# Altium integrated library Vishay Roederstein Electrolytic Snap-In Pins Capacitor.IntLib: 936 symbols (part 14 of 16)
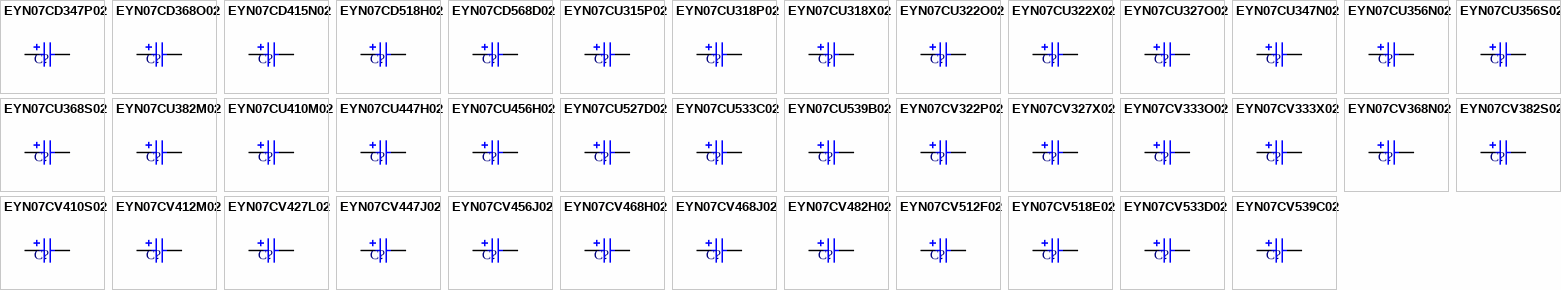
[diagram p36: symbols EYN07CD347P02 to EYN07CV539C02]

## EYN07CU539B02
designator C?
Aluminum Electrolytic Capacitor, Power Capacitor Style EYN, Snap-in 6mm Solder Pins: 39000uF, 6.3V; PCB_Layout: Complies with Manufacturer's Recommendation.; DrillSize: Nominal, Complies with Manufacturer's Recommendation.; Published: 19-Mar-2004; DatasheetDocument: 4-Feb-2002; PackageReference: CAPPRS10-35X25; Publisher: Altium Limited; ComponentLink1Description: Manufacturer Link; ComponentLink1URL: http://www.vishay.com/; ComponentLink2Description: Datasheet; ComponentLink2URL: http://www.vishay.com/docs/25137/eyn.pdf; Value: 39000uF
footprint CAPPRS10-35X25 (Capacitor, Electrolytic, Radial, Snap-In Pins; Body 35 x 25 mm (Dia.xH typ); Pin Spacing 10 mm (typ))
simulation model CAP (Capacitor)
signal-integrity model EYN07CU539B02
pins: 1, 2
1 alternate drawing of the same symbol

## EYN07CV322P02
designator C?
Aluminum Electrolytic Capacitor, Power Capacitor Style EYN, Snap-in 6mm Solder Pins: 220uF, 450V; PCB_Layout: Complies with Manufacturer's Recommendation.; DrillSize: Nominal, Complies with Manufacturer's Recommendation.; Published: 19-Mar-2004; DatasheetDocument: 4-Feb-2002; PackageReference: CAPPRS10-35X30; Publisher: Altium Limited; ComponentLink1Description: Manufacturer Link; ComponentLink1URL: http://www.vishay.com/; ComponentLink2Description: Datasheet; ComponentLink2URL: http://www.vishay.com/docs/25137/eyn.pdf; Value: 220uF
footprint CAPPRS10-35X30 (Capacitor, Electrolytic, Radial, Snap-In Pins; Body 35 x 30 mm (Dia.xH typ); Pin Spacing 10 mm (typ))
simulation model CAP (Capacitor)
signal-integrity model EYN07CV322P02
pins: 1, 2
1 alternate drawing of the same symbol

## EYN07CV327X02
designator C?
Aluminum Electrolytic Capacitor, Power Capacitor Style EYN, Snap-in 6mm Solder Pins: 270uF, 400V; PCB_Layout: Complies with Manufacturer's Recommendation.; DrillSize: Nominal, Complies with Manufacturer's Recommendation.; Published: 19-Mar-2004; DatasheetDocument: 4-Feb-2002; PackageReference: CAPPRS10-35X30; Publisher: Altium Limited; ComponentLink1Description: Manufacturer Link; ComponentLink1URL: http://www.vishay.com/; ComponentLink2Description: Datasheet; ComponentLink2URL: http://www.vishay.com/docs/25137/eyn.pdf; Value: 270uF
footprint CAPPRS10-35X30 (Capacitor, Electrolytic, Radial, Snap-In Pins; Body 35 x 30 mm (Dia.xH typ); Pin Spacing 10 mm (typ))
simulation model CAP (Capacitor)
signal-integrity model EYN07CV327X02
pins: 1, 2
1 alternate drawing of the same symbol

## EYN07CV333O02
designator C?
Aluminum Electrolytic Capacitor, Power Capacitor Style EYN, Snap-in 6mm Solder Pins: 330uF, 350V; PCB_Layout: Complies with Manufacturer's Recommendation.; DrillSize: Nominal, Complies with Manufacturer's Recommendation.; Published: 19-Mar-2004; DatasheetDocument: 4-Feb-2002; PackageReference: CAPPRS10-35X30; Publisher: Altium Limited; ComponentLink1Description: Manufacturer Link; ComponentLink1URL: http://www.vishay.com/; ComponentLink2Description: Datasheet; ComponentLink2URL: http://www.vishay.com/docs/25137/eyn.pdf; Value: 330uF
footprint CAPPRS10-35X30 (Capacitor, Electrolytic, Radial, Snap-In Pins; Body 35 x 30 mm (Dia.xH typ); Pin Spacing 10 mm (typ))
simulation model CAP (Capacitor)
signal-integrity model EYN07CV333O02
pins: 1, 2
1 alternate drawing of the same symbol

## EYN07CV333X02
designator C?
Aluminum Electrolytic Capacitor, Power Capacitor Style EYN, Snap-in 6mm Solder Pins: 330uF, 400V; PCB_Layout: Complies with Manufacturer's Recommendation.; DrillSize: Nominal, Complies with Manufacturer's Recommendation.; Published: 19-Mar-2004; DatasheetDocument: 4-Feb-2002; PackageReference: CAPPRS10-35X30; Publisher: Altium Limited; ComponentLink1Description: Manufacturer Link; ComponentLink1URL: http://www.vishay.com/; ComponentLink2Description: Datasheet; ComponentLink2URL: http://www.vishay.com/docs/25137/eyn.pdf; Value: 330uF
footprint CAPPRS10-35X30 (Capacitor, Electrolytic, Radial, Snap-In Pins; Body 35 x 30 mm (Dia.xH typ); Pin Spacing 10 mm (typ))
simulation model CAP (Capacitor)
signal-integrity model EYN07CV333X02
pins: 1, 2
1 alternate drawing of the same symbol

## EYN07CV368N02
designator C?
Aluminum Electrolytic Capacitor, Power Capacitor Style EYN, Snap-in 6mm Solder Pins: 680uF, 250V; PCB_Layout: Complies with Manufacturer's Recommendation.; DrillSize: Nominal, Complies with Manufacturer's Recommendation.; Published: 19-Mar-2004; DatasheetDocument: 4-Feb-2002; PackageReference: CAPPRS10-35X30; Publisher: Altium Limited; ComponentLink1Description: Manufacturer Link; ComponentLink1URL: http://www.vishay.com/; ComponentLink2Description: Datasheet; ComponentLink2URL: http://www.vishay.com/docs/25137/eyn.pdf; Value: 680uF
footprint CAPPRS10-35X30 (Capacitor, Electrolytic, Radial, Snap-In Pins; Body 35 x 30 mm (Dia.xH typ); Pin Spacing 10 mm (typ))
simulation model CAP (Capacitor)
signal-integrity model EYN07CV368N02
pins: 1, 2
1 alternate drawing of the same symbol

## EYN07CV382S02
designator C?
Aluminum Electrolytic Capacitor, Power Capacitor Style EYN, Snap-in 6mm Solder Pins: 820uF, 200V; PCB_Layout: Complies with Manufacturer's Recommendation.; DrillSize: Nominal, Complies with Manufacturer's Recommendation.; Published: 19-Mar-2004; DatasheetDocument: 4-Feb-2002; PackageReference: CAPPRS10-35X30; Publisher: Altium Limited; ComponentLink1Description: Manufacturer Link; ComponentLink1URL: http://www.vishay.com/; ComponentLink2Description: Datasheet; ComponentLink2URL: http://www.vishay.com/docs/25137/eyn.pdf; Value: 820uF
footprint CAPPRS10-35X30 (Capacitor, Electrolytic, Radial, Snap-In Pins; Body 35 x 30 mm (Dia.xH typ); Pin Spacing 10 mm (typ))
simulation model CAP (Capacitor)
signal-integrity model EYN07CV382S02
pins: 1, 2
1 alternate drawing of the same symbol

## EYN07CV410S02
designator C?
Aluminum Electrolytic Capacitor, Power Capacitor Style EYN, Snap-in 6mm Solder Pins: 1000uF, 200V; PCB_Layout: Complies with Manufacturer's Recommendation.; DrillSize: Nominal, Complies with Manufacturer's Recommendation.; Published: 19-Mar-2004; DatasheetDocument: 4-Feb-2002; PackageReference: CAPPRS10-35X30; Publisher: Altium Limited; ComponentLink1Description: Manufacturer Link; ComponentLink1URL: http://www.vishay.com/; ComponentLink2Description: Datasheet; ComponentLink2URL: http://www.vishay.com/docs/25137/eyn.pdf; Value: 1000uF
footprint CAPPRS10-35X30 (Capacitor, Electrolytic, Radial, Snap-In Pins; Body 35 x 30 mm (Dia.xH typ); Pin Spacing 10 mm (typ))
simulation model CAP (Capacitor)
signal-integrity model EYN07CV410S02
pins: 1, 2
1 alternate drawing of the same symbol

## EYN07CV412M02
designator C?
Aluminum Electrolytic Capacitor, Power Capacitor Style EYN, Snap-in 6mm Solder Pins: 1200uF, 160V; PCB_Layout: Complies with Manufacturer's Recommendation.; DrillSize: Nominal, Complies with Manufacturer's Recommendation.; Published: 19-Mar-2004; DatasheetDocument: 4-Feb-2002; PackageReference: CAPPRS10-35X30; Publisher: Altium Limited; ComponentLink1Description: Manufacturer Link; ComponentLink1URL: http://www.vishay.com/; ComponentLink2Description: Datasheet; ComponentLink2URL: http://www.vishay.com/docs/25137/eyn.pdf; Value: 1200uF
footprint CAPPRS10-35X30 (Capacitor, Electrolytic, Radial, Snap-In Pins; Body 35 x 30 mm (Dia.xH typ); Pin Spacing 10 mm (typ))
simulation model CAP (Capacitor)
signal-integrity model EYN07CV412M02
pins: 1, 2
1 alternate drawing of the same symbol

## EYN07CV427L02
designator C?
Aluminum Electrolytic Capacitor, Power Capacitor Style EYN, Snap-in 6mm Solder Pins: 2700uF, 100V; PCB_Layout: Complies with Manufacturer's Recommendation.; DrillSize: Nominal, Complies with Manufacturer's Recommendation.; Published: 19-Mar-2004; DatasheetDocument: 4-Feb-2002; PackageReference: CAPPRS10-35X30; Publisher: Altium Limited; ComponentLink1Description: Manufacturer Link; ComponentLink1URL: http://www.vishay.com/; ComponentLink2Description: Datasheet; ComponentLink2URL: http://www.vishay.com/docs/25137/eyn.pdf; Value: 2700uF
footprint CAPPRS10-35X30 (Capacitor, Electrolytic, Radial, Snap-In Pins; Body 35 x 30 mm (Dia.xH typ); Pin Spacing 10 mm (typ))
simulation model CAP (Capacitor)
signal-integrity model EYN07CV427L02
pins: 1, 2
1 alternate drawing of the same symbol

## EYN07CV447J02
designator C?
Aluminum Electrolytic Capacitor, Power Capacitor Style EYN, Snap-in 6mm Solder Pins: 4700uF, 63V; PCB_Layout: Complies with Manufacturer's Recommendation.; DrillSize: Nominal, Complies with Manufacturer's Recommendation.; Published: 19-Mar-2004; DatasheetDocument: 4-Feb-2002; PackageReference: CAPPRS10-35X30; Publisher: Altium Limited; ComponentLink1Description: Manufacturer Link; ComponentLink1URL: http://www.vishay.com/; ComponentLink2Description: Datasheet; ComponentLink2URL: http://www.vishay.com/docs/25137/eyn.pdf; Value: 4700uF
footprint CAPPRS10-35X30 (Capacitor, Electrolytic, Radial, Snap-In Pins; Body 35 x 30 mm (Dia.xH typ); Pin Spacing 10 mm (typ))
simulation model CAP (Capacitor)
signal-integrity model EYN07CV447J02
pins: 1, 2
1 alternate drawing of the same symbol

## EYN07CV456J02
designator C?
Aluminum Electrolytic Capacitor, Power Capacitor Style EYN, Snap-in 6mm Solder Pins: 5600uF, 63V; PCB_Layout: Complies with Manufacturer's Recommendation.; DrillSize: Nominal, Complies with Manufacturer's Recommendation.; Published: 19-Mar-2004; DatasheetDocument: 4-Feb-2002; PackageReference: CAPPRS10-35X30; Publisher: Altium Limited; ComponentLink1Description: Manufacturer Link; ComponentLink1URL: http://www.vishay.com/; ComponentLink2Description: Datasheet; ComponentLink2URL: http://www.vishay.com/docs/25137/eyn.pdf; Value: 5600uF
footprint CAPPRS10-35X30 (Capacitor, Electrolytic, Radial, Snap-In Pins; Body 35 x 30 mm (Dia.xH typ); Pin Spacing 10 mm (typ))
simulation model CAP (Capacitor)
signal-integrity model EYN07CV456J02
pins: 1, 2
1 alternate drawing of the same symbol

## EYN07CV468H02
designator C?
Aluminum Electrolytic Capacitor, Power Capacitor Style EYN, Snap-in 6mm Solder Pins: 6800uF, 50V; PCB_Layout: Complies with Manufacturer's Recommendation.; DrillSize: Nominal, Complies with Manufacturer's Recommendation.; Published: 19-Mar-2004; DatasheetDocument: 4-Feb-2002; PackageReference: CAPPRS10-35X30; Publisher: Altium Limited; ComponentLink1Description: Manufacturer Link; ComponentLink1URL: http://www.vishay.com/; ComponentLink2Description: Datasheet; ComponentLink2URL: http://www.vishay.com/docs/25137/eyn.pdf; Value: 6800uF
footprint CAPPRS10-35X30 (Capacitor, Electrolytic, Radial, Snap-In Pins; Body 35 x 30 mm (Dia.xH typ); Pin Spacing 10 mm (typ))
simulation model CAP (Capacitor)
signal-integrity model EYN07CV468H02
pins: 1, 2
1 alternate drawing of the same symbol

## EYN07CV468J02
designator C?
Aluminum Electrolytic Capacitor, Power Capacitor Style EYN, Snap-in 6mm Solder Pins: 6800uF, 63V; PCB_Layout: Complies with Manufacturer's Recommendation.; DrillSize: Nominal, Complies with Manufacturer's Recommendation.; Published: 19-Mar-2004; DatasheetDocument: 4-Feb-2002; PackageReference: CAPPRS10-35X30; Publisher: Altium Limited; ComponentLink1Description: Manufacturer Link; ComponentLink1URL: http://www.vishay.com/; ComponentLink2Description: Datasheet; ComponentLink2URL: http://www.vishay.com/docs/25137/eyn.pdf; Value: 6800uF
footprint CAPPRS10-35X30 (Capacitor, Electrolytic, Radial, Snap-In Pins; Body 35 x 30 mm (Dia.xH typ); Pin Spacing 10 mm (typ))
simulation model CAP (Capacitor)
signal-integrity model EYN07CV468J02
pins: 1, 2
1 alternate drawing of the same symbol

## EYN07CV482H02
designator C?
Aluminum Electrolytic Capacitor, Power Capacitor Style EYN, Snap-in 6mm Solder Pins: 8200uF, 50V; PCB_Layout: Complies with Manufacturer's Recommendation.; DrillSize: Nominal, Complies with Manufacturer's Recommendation.; Published: 19-Mar-2004; DatasheetDocument: 4-Feb-2002; PackageReference: CAPPRS10-35X30; Publisher: Altium Limited; ComponentLink1Description: Manufacturer Link; ComponentLink1URL: http://www.vishay.com/; ComponentLink2Description: Datasheet; ComponentLink2URL: http://www.vishay.com/docs/25137/eyn.pdf; Value: 8200uF
footprint CAPPRS10-35X30 (Capacitor, Electrolytic, Radial, Snap-In Pins; Body 35 x 30 mm (Dia.xH typ); Pin Spacing 10 mm (typ))
simulation model CAP (Capacitor)
signal-integrity model EYN07CV482H02
pins: 1, 2
1 alternate drawing of the same symbol

## EYN07CV512F02
designator C?
Aluminum Electrolytic Capacitor, Power Capacitor Style EYN, Snap-in 6mm Solder Pins: 12000uF, 35V; PCB_Layout: Complies with Manufacturer's Recommendation.; DrillSize: Nominal, Complies with Manufacturer's Recommendation.; Published: 19-Mar-2004; DatasheetDocument: 4-Feb-2002; PackageReference: CAPPRS10-35X30; Publisher: Altium Limited; ComponentLink1Description: Manufacturer Link; ComponentLink1URL: http://www.vishay.com/; ComponentLink2Description: Datasheet; ComponentLink2URL: http://www.vishay.com/docs/25137/eyn.pdf; Value: 12000uF
footprint CAPPRS10-35X30 (Capacitor, Electrolytic, Radial, Snap-In Pins; Body 35 x 30 mm (Dia.xH typ); Pin Spacing 10 mm (typ))
simulation model CAP (Capacitor)
signal-integrity model EYN07CV512F02
pins: 1, 2
1 alternate drawing of the same symbol

## EYN07CV518E02
designator C?
Aluminum Electrolytic Capacitor, Power Capacitor Style EYN, Snap-in 6mm Solder Pins: 18000uF, 25V; PCB_Layout: Complies with Manufacturer's Recommendation.; DrillSize: Nominal, Complies with Manufacturer's Recommendation.; Published: 19-Mar-2004; DatasheetDocument: 4-Feb-2002; PackageReference: CAPPRS10-35X30; Publisher: Altium Limited; ComponentLink1Description: Manufacturer Link; ComponentLink1URL: http://www.vishay.com/; ComponentLink2Description: Datasheet; ComponentLink2URL: http://www.vishay.com/docs/25137/eyn.pdf; Value: 18000uF
footprint CAPPRS10-35X30 (Capacitor, Electrolytic, Radial, Snap-In Pins; Body 35 x 30 mm (Dia.xH typ); Pin Spacing 10 mm (typ))
simulation model CAP (Capacitor)
signal-integrity model EYN07CV518E02
pins: 1, 2
1 alternate drawing of the same symbol

## EYN07CV533D02
designator C?
Aluminum Electrolytic Capacitor, Power Capacitor Style EYN, Snap-in 6mm Solder Pins: 33000uF, 16V; PCB_Layout: Complies with Manufacturer's Recommendation.; DrillSize: Nominal, Complies with Manufacturer's Recommendation.; Published: 19-Mar-2004; DatasheetDocument: 4-Feb-2002; PackageReference: CAPPRS10-35X30; Publisher: Altium Limited; ComponentLink1Description: Manufacturer Link; ComponentLink1URL: http://www.vishay.com/; ComponentLink2Description: Datasheet; ComponentLink2URL: http://www.vishay.com/docs/25137/eyn.pdf; Value: 33000uF
footprint CAPPRS10-35X30 (Capacitor, Electrolytic, Radial, Snap-In Pins; Body 35 x 30 mm (Dia.xH typ); Pin Spacing 10 mm (typ))
simulation model CAP (Capacitor)
signal-integrity model EYN07CV533D02
pins: 1, 2
1 alternate drawing of the same symbol

## EYN07CV539C02
designator C?
Aluminum Electrolytic Capacitor, Power Capacitor Style EYN, Snap-in 6mm Solder Pins: 39000uF, 10V; PCB_Layout: Complies with Manufacturer's Recommendation.; DrillSize: Nominal, Complies with Manufacturer's Recommendation.; Published: 19-Mar-2004; DatasheetDocument: 4-Feb-2002; PackageReference: CAPPRS10-35X30; Publisher: Altium Limited; ComponentLink1Description: Manufacturer Link; ComponentLink1URL: http://www.vishay.com/; ComponentLink2Description: Datasheet; ComponentLink2URL: http://www.vishay.com/docs/25137/eyn.pdf; Value: 39000uF
footprint CAPPRS10-35X30 (Capacitor, Electrolytic, Radial, Snap-In Pins; Body 35 x 30 mm (Dia.xH typ); Pin Spacing 10 mm (typ))
simulation model CAP (Capacitor)
signal-integrity model EYN07CV539C02
pins: 1, 2
1 alternate drawing of the same symbol

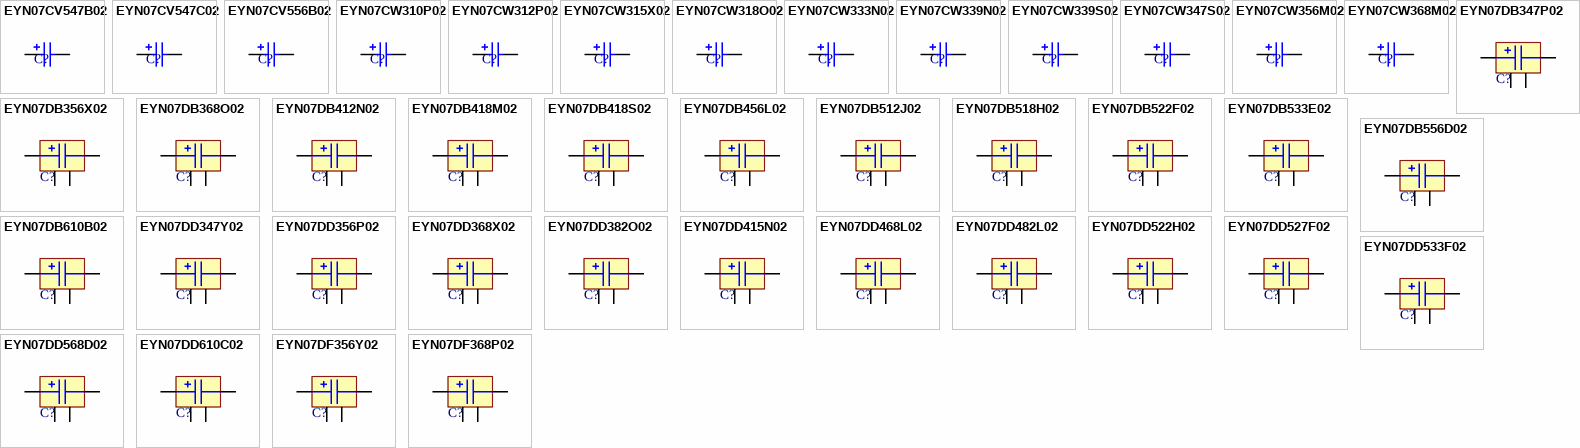
[diagram p20: symbols EYN07CV547B02 to EYN07DF368P02]

## EYN07CV547B02
designator C?
Aluminum Electrolytic Capacitor, Power Capacitor Style EYN, Snap-in 6mm Solder Pins: 47000uF, 6.3V; PCB_Layout: Complies with Manufacturer's Recommendation.; DrillSize: Nominal, Complies with Manufacturer's Recommendation.; Published: 19-Mar-2004; DatasheetDocument: 4-Feb-2002; PackageReference: CAPPRS10-35X30; Publisher: Altium Limited; ComponentLink1Description: Manufacturer Link; ComponentLink1URL: http://www.vishay.com/; ComponentLink2Description: Datasheet; ComponentLink2URL: http://www.vishay.com/docs/25137/eyn.pdf; Value: 47000uF
footprint CAPPRS10-35X30 (Capacitor, Electrolytic, Radial, Snap-In Pins; Body 35 x 30 mm (Dia.xH typ); Pin Spacing 10 mm (typ))
simulation model CAP (Capacitor)
signal-integrity model EYN07CV547B02
pins: 1, 2
1 alternate drawing of the same symbol

## EYN07CV547C02
designator C?
Aluminum Electrolytic Capacitor, Power Capacitor Style EYN, Snap-in 6mm Solder Pins: 47000uF, 10V; PCB_Layout: Complies with Manufacturer's Recommendation.; DrillSize: Nominal, Complies with Manufacturer's Recommendation.; Published: 19-Mar-2004; DatasheetDocument: 4-Feb-2002; PackageReference: CAPPRS10-35X30; Publisher: Altium Limited; ComponentLink1Description: Manufacturer Link; ComponentLink1URL: http://www.vishay.com/; ComponentLink2Description: Datasheet; ComponentLink2URL: http://www.vishay.com/docs/25137/eyn.pdf; Value: 47000uF
footprint CAPPRS10-35X30 (Capacitor, Electrolytic, Radial, Snap-In Pins; Body 35 x 30 mm (Dia.xH typ); Pin Spacing 10 mm (typ))
simulation model CAP (Capacitor)
signal-integrity model EYN07CV547C02
pins: 1, 2
1 alternate drawing of the same symbol

## EYN07CV556B02
designator C?
Aluminum Electrolytic Capacitor, Power Capacitor Style EYN, Snap-in 6mm Solder Pins: 56000uF, 6.3V; PCB_Layout: Complies with Manufacturer's Recommendation.; DrillSize: Nominal, Complies with Manufacturer's Recommendation.; Published: 19-Mar-2004; DatasheetDocument: 4-Feb-2002; PackageReference: CAPPRS10-35X30; Publisher: Altium Limited; ComponentLink1Description: Manufacturer Link; ComponentLink1URL: http://www.vishay.com/; ComponentLink2Description: Datasheet; ComponentLink2URL: http://www.vishay.com/docs/25137/eyn.pdf; Value: 56000uF
footprint CAPPRS10-35X30 (Capacitor, Electrolytic, Radial, Snap-In Pins; Body 35 x 30 mm (Dia.xH typ); Pin Spacing 10 mm (typ))
simulation model CAP (Capacitor)
signal-integrity model EYN07CV556B02
pins: 1, 2
1 alternate drawing of the same symbol

## EYN07CW310P02
designator C?
Aluminum Electrolytic Capacitor, Power Capacitor Style EYN, Snap-in 6mm Solder Pins: 100uF, 450V; PCB_Layout: Complies with Manufacturer's Recommendation.; DrillSize: Nominal, Complies with Manufacturer's Recommendation.; Published: 19-Mar-2004; DatasheetDocument: 4-Feb-2002; PackageReference: CAPPRS10-35X20; Publisher: Altium Limited; ComponentLink1Description: Manufacturer Link; ComponentLink1URL: http://www.vishay.com/; ComponentLink2Description: Datasheet; ComponentLink2URL: http://www.vishay.com/docs/25137/eyn.pdf; Value: 100uF
footprint CAPPRS10-35X20 (Capacitor, Electrolytic, Radial, Snap-In Pins; Body 35 x 20 mm (Dia.xH typ); Pin Spacing 10 mm (typ))
simulation model CAP (Capacitor)
signal-integrity model EYN07CW310P02
pins: 1, 2
1 alternate drawing of the same symbol

## EYN07CW312P02
designator C?
Aluminum Electrolytic Capacitor, Power Capacitor Style EYN, Snap-in 6mm Solder Pins: 120uF, 450V; PCB_Layout: Complies with Manufacturer's Recommendation.; DrillSize: Nominal, Complies with Manufacturer's Recommendation.; Published: 19-Mar-2004; DatasheetDocument: 4-Feb-2002; PackageReference: CAPPRS10-35X20; Publisher: Altium Limited; ComponentLink1Description: Manufacturer Link; ComponentLink1URL: http://www.vishay.com/; ComponentLink2Description: Datasheet; ComponentLink2URL: http://www.vishay.com/docs/25137/eyn.pdf; Value: 120uF
footprint CAPPRS10-35X20 (Capacitor, Electrolytic, Radial, Snap-In Pins; Body 35 x 20 mm (Dia.xH typ); Pin Spacing 10 mm (typ))
simulation model CAP (Capacitor)
signal-integrity model EYN07CW312P02
pins: 1, 2
1 alternate drawing of the same symbol

## EYN07CW315X02
designator C?
Aluminum Electrolytic Capacitor, Power Capacitor Style EYN, Snap-in 6mm Solder Pins: 150uF, 400V; PCB_Layout: Complies with Manufacturer's Recommendation.; DrillSize: Nominal, Complies with Manufacturer's Recommendation.; Published: 19-Mar-2004; DatasheetDocument: 4-Feb-2002; PackageReference: CAPPRS10-35X20; Publisher: Altium Limited; ComponentLink1Description: Manufacturer Link; ComponentLink1URL: http://www.vishay.com/; ComponentLink2Description: Datasheet; ComponentLink2URL: http://www.vishay.com/docs/25137/eyn.pdf; Value: 150uF
footprint CAPPRS10-35X20 (Capacitor, Electrolytic, Radial, Snap-In Pins; Body 35 x 20 mm (Dia.xH typ); Pin Spacing 10 mm (typ))
simulation model CAP (Capacitor)
signal-integrity model EYN07CW315X02
pins: 1, 2
1 alternate drawing of the same symbol

## EYN07CW318O02
designator C?
Aluminum Electrolytic Capacitor, Power Capacitor Style EYN, Snap-in 6mm Solder Pins: 180uF, 350V; PCB_Layout: Complies with Manufacturer's Recommendation.; DrillSize: Nominal, Complies with Manufacturer's Recommendation.; Published: 19-Mar-2004; DatasheetDocument: 4-Feb-2002; PackageReference: CAPPRS10-35X20; Publisher: Altium Limited; ComponentLink1Description: Manufacturer Link; ComponentLink1URL: http://www.vishay.com/; ComponentLink2Description: Datasheet; ComponentLink2URL: http://www.vishay.com/docs/25137/eyn.pdf; Value: 180uF
footprint CAPPRS10-35X20 (Capacitor, Electrolytic, Radial, Snap-In Pins; Body 35 x 20 mm (Dia.xH typ); Pin Spacing 10 mm (typ))
simulation model CAP (Capacitor)
signal-integrity model EYN07CW318O02
pins: 1, 2
1 alternate drawing of the same symbol

## EYN07CW333N02
designator C?
Aluminum Electrolytic Capacitor, Power Capacitor Style EYN, Snap-in 6mm Solder Pins: 330uF, 250V; PCB_Layout: Complies with Manufacturer's Recommendation.; DrillSize: Nominal, Complies with Manufacturer's Recommendation.; Published: 19-Mar-2004; DatasheetDocument: 4-Feb-2002; PackageReference: CAPPRS10-35X20; Publisher: Altium Limited; ComponentLink1Description: Manufacturer Link; ComponentLink1URL: http://www.vishay.com/; ComponentLink2Description: Datasheet; ComponentLink2URL: http://www.vishay.com/docs/25137/eyn.pdf; Value: 330uF
footprint CAPPRS10-35X20 (Capacitor, Electrolytic, Radial, Snap-In Pins; Body 35 x 20 mm (Dia.xH typ); Pin Spacing 10 mm (typ))
simulation model CAP (Capacitor)
signal-integrity model EYN07CW333N02
pins: 1, 2
1 alternate drawing of the same symbol

## EYN07CW339N02
designator C?
Aluminum Electrolytic Capacitor, Power Capacitor Style EYN, Snap-in 6mm Solder Pins: 390uF, 250V; PCB_Layout: Complies with Manufacturer's Recommendation.; DrillSize: Nominal, Complies with Manufacturer's Recommendation.; Published: 19-Mar-2004; DatasheetDocument: 4-Feb-2002; PackageReference: CAPPRS10-35X20; Publisher: Altium Limited; ComponentLink1Description: Manufacturer Link; ComponentLink1URL: http://www.vishay.com/; ComponentLink2Description: Datasheet; ComponentLink2URL: http://www.vishay.com/docs/25137/eyn.pdf; Value: 390uF
footprint CAPPRS10-35X20 (Capacitor, Electrolytic, Radial, Snap-In Pins; Body 35 x 20 mm (Dia.xH typ); Pin Spacing 10 mm (typ))
simulation model CAP (Capacitor)
signal-integrity model EYN07CW339N02
pins: 1, 2
1 alternate drawing of the same symbol

## EYN07CW339S02
designator C?
Aluminum Electrolytic Capacitor, Power Capacitor Style EYN, Snap-in 6mm Solder Pins: 390uF, 200V; PCB_Layout: Complies with Manufacturer's Recommendation.; DrillSize: Nominal, Complies with Manufacturer's Recommendation.; Published: 19-Mar-2004; DatasheetDocument: 4-Feb-2002; PackageReference: CAPPRS10-35X20; Publisher: Altium Limited; ComponentLink1Description: Manufacturer Link; ComponentLink1URL: http://www.vishay.com/; ComponentLink2Description: Datasheet; ComponentLink2URL: http://www.vishay.com/docs/25137/eyn.pdf; Value: 390uF
footprint CAPPRS10-35X20 (Capacitor, Electrolytic, Radial, Snap-In Pins; Body 35 x 20 mm (Dia.xH typ); Pin Spacing 10 mm (typ))
simulation model CAP (Capacitor)
signal-integrity model EYN07CW339S02
pins: 1, 2
1 alternate drawing of the same symbol

## EYN07CW347S02
designator C?
Aluminum Electrolytic Capacitor, Power Capacitor Style EYN, Snap-in 6mm Solder Pins: 470uF, 200V; PCB_Layout: Complies with Manufacturer's Recommendation.; DrillSize: Nominal, Complies with Manufacturer's Recommendation.; Published: 19-Mar-2004; DatasheetDocument: 4-Feb-2002; PackageReference: CAPPRS10-35X20; Publisher: Altium Limited; ComponentLink1Description: Manufacturer Link; ComponentLink1URL: http://www.vishay.com/; ComponentLink2Description: Datasheet; ComponentLink2URL: http://www.vishay.com/docs/25137/eyn.pdf; Value: 470uF
footprint CAPPRS10-35X20 (Capacitor, Electrolytic, Radial, Snap-In Pins; Body 35 x 20 mm (Dia.xH typ); Pin Spacing 10 mm (typ))
simulation model CAP (Capacitor)
signal-integrity model EYN07CW347S02
pins: 1, 2
1 alternate drawing of the same symbol

## EYN07CW356M02
designator C?
Aluminum Electrolytic Capacitor, Power Capacitor Style EYN, Snap-in 6mm Solder Pins: 560uF, 160V; PCB_Layout: Complies with Manufacturer's Recommendation.; DrillSize: Nominal, Complies with Manufacturer's Recommendation.; Published: 19-Mar-2004; DatasheetDocument: 4-Feb-2002; PackageReference: CAPPRS10-35X20; Publisher: Altium Limited; ComponentLink1Description: Manufacturer Link; ComponentLink1URL: http://www.vishay.com/; ComponentLink2Description: Datasheet; ComponentLink2URL: http://www.vishay.com/docs/25137/eyn.pdf; Value: 560uF
footprint CAPPRS10-35X20 (Capacitor, Electrolytic, Radial, Snap-In Pins; Body 35 x 20 mm (Dia.xH typ); Pin Spacing 10 mm (typ))
simulation model CAP (Capacitor)
signal-integrity model EYN07CW356M02
pins: 1, 2
1 alternate drawing of the same symbol

## EYN07CW368M02
designator C?
Aluminum Electrolytic Capacitor, Power Capacitor Style EYN, Snap-in 6mm Solder Pins: 680uF, 160V; PCB_Layout: Complies with Manufacturer's Recommendation.; DrillSize: Nominal, Complies with Manufacturer's Recommendation.; Published: 19-Mar-2004; DatasheetDocument: 4-Feb-2002; PackageReference: CAPPRS10-35X20; Publisher: Altium Limited; ComponentLink1Description: Manufacturer Link; ComponentLink1URL: http://www.vishay.com/; ComponentLink2Description: Datasheet; ComponentLink2URL: http://www.vishay.com/docs/25137/eyn.pdf; Value: 680uF
footprint CAPPRS10-35X20 (Capacitor, Electrolytic, Radial, Snap-In Pins; Body 35 x 20 mm (Dia.xH typ); Pin Spacing 10 mm (typ))
simulation model CAP (Capacitor)
signal-integrity model EYN07CW368M02
pins: 1, 2
1 alternate drawing of the same symbol

## EYN07DB347P02
designator C?
Aluminum Electrolytic Capacitor, Power Capacitor Style EYN, Snap-in 6mm Solder Pins: 470uF, 450V; Note: Pins 3 and 4 are Mounting Fixtures Only; PCB_Layout: Complies with Manufacturer's Recommendation.; DrillSize: Nominal, Complies with Manufacturer's Recommendation.; Published: 19-Mar-2004; DatasheetDocument: 4-Feb-2002; PackageReference: CAPPRS22.5-40X40-4; Publisher: Altium Limited; ComponentLink1Description: Manufacturer Link; ComponentLink1URL: http://www.vishay.com/; ComponentLink2Description: Datasheet; ComponentLink2URL: http://www.vishay.com/docs/25137/eyn.pdf
footprint CAPPRS22.5-40X40-4 (Capacitor, Electrolytic, Radial, Snap-In Pins; Body 40 x 40 mm (Dia.xH typ); Pin Spacing 22.5 mm (typ))
simulation model CAP (Capacitor)
pins: 1, 2, 3 MH, 4 MH

## EYN07DB356X02
designator C?
Aluminum Electrolytic Capacitor, Power Capacitor Style EYN, Snap-in 6mm Solder Pins: 560uF, 400V; Note: Pins 3 and 4 are Mounting Fixtures Only; PCB_Layout: Complies with Manufacturer's Recommendation.; DrillSize: Nominal, Complies with Manufacturer's Recommendation.; Published: 19-Mar-2004; DatasheetDocument: 4-Feb-2002; PackageReference: CAPPRS22.5-40X40-4; Publisher: Altium Limited; ComponentLink1Description: Manufacturer Link; ComponentLink1URL: http://www.vishay.com/; ComponentLink2Description: Datasheet; ComponentLink2URL: http://www.vishay.com/docs/25137/eyn.pdf
footprint CAPPRS22.5-40X40-4 (Capacitor, Electrolytic, Radial, Snap-In Pins; Body 40 x 40 mm (Dia.xH typ); Pin Spacing 22.5 mm (typ))
simulation model CAP (Capacitor)
pins: 1, 2, 3 MH, 4 MH

## EYN07DB368O02
designator C?
Aluminum Electrolytic Capacitor, Power Capacitor Style EYN, Snap-in 6mm Solder Pins: 680uF, 350V; Note: Pins 3 and 4 are Mounting Fixtures Only; PCB_Layout: Complies with Manufacturer's Recommendation.; DrillSize: Nominal, Complies with Manufacturer's Recommendation.; Published: 19-Mar-2004; DatasheetDocument: 4-Feb-2002; PackageReference: CAPPRS22.5-40X40-4; Publisher: Altium Limited; ComponentLink1Description: Manufacturer Link; ComponentLink1URL: http://www.vishay.com/; ComponentLink2Description: Datasheet; ComponentLink2URL: http://www.vishay.com/docs/25137/eyn.pdf
footprint CAPPRS22.5-40X40-4 (Capacitor, Electrolytic, Radial, Snap-In Pins; Body 40 x 40 mm (Dia.xH typ); Pin Spacing 22.5 mm (typ))
simulation model CAP (Capacitor)
pins: 1, 2, 3 MH, 4 MH

## EYN07DB412N02
designator C?
Aluminum Electrolytic Capacitor, Power Capacitor Style EYN, Snap-in 6mm Solder Pins: 1200uF, 250V; Note: Pins 3 and 4 are Mounting Fixtures Only; PCB_Layout: Complies with Manufacturer's Recommendation.; DrillSize: Nominal, Complies with Manufacturer's Recommendation.; Published: 19-Mar-2004; DatasheetDocument: 4-Feb-2002; PackageReference: CAPPRS22.5-40X40-4; Publisher: Altium Limited; ComponentLink1Description: Manufacturer Link; ComponentLink1URL: http://www.vishay.com/; ComponentLink2Description: Datasheet; ComponentLink2URL: http://www.vishay.com/docs/25137/eyn.pdf
footprint CAPPRS22.5-40X40-4 (Capacitor, Electrolytic, Radial, Snap-In Pins; Body 40 x 40 mm (Dia.xH typ); Pin Spacing 22.5 mm (typ))
simulation model CAP (Capacitor)
pins: 1, 2, 3 MH, 4 MH

## EYN07DB418M02
designator C?
Aluminum Electrolytic Capacitor, Power Capacitor Style EYN, Snap-in 6mm Solder Pins: 1800uF, 160V; Note: Pins 3 and 4 are Mounting Fixtures Only; PCB_Layout: Complies with Manufacturer's Recommendation.; DrillSize: Nominal, Complies with Manufacturer's Recommendation.; Published: 19-Mar-2004; DatasheetDocument: 4-Feb-2002; PackageReference: CAPPRS22.5-40X40-4; Publisher: Altium Limited; ComponentLink1Description: Manufacturer Link; ComponentLink1URL: http://www.vishay.com/; ComponentLink2Description: Datasheet; ComponentLink2URL: http://www.vishay.com/docs/25137/eyn.pdf
footprint CAPPRS22.5-40X40-4 (Capacitor, Electrolytic, Radial, Snap-In Pins; Body 40 x 40 mm (Dia.xH typ); Pin Spacing 22.5 mm (typ))
simulation model CAP (Capacitor)
pins: 1, 2, 3 MH, 4 MH

## EYN07DB418S02
designator C?
Aluminum Electrolytic Capacitor, Power Capacitor Style EYN, Snap-in 6mm Solder Pins: 1800uF, 200V; Note: Pins 3 and 4 are Mounting Fixtures Only; PCB_Layout: Complies with Manufacturer's Recommendation.; DrillSize: Nominal, Complies with Manufacturer's Recommendation.; Published: 19-Mar-2004; DatasheetDocument: 4-Feb-2002; PackageReference: CAPPRS22.5-40X40-4; Publisher: Altium Limited; ComponentLink1Description: Manufacturer Link; ComponentLink1URL: http://www.vishay.com/; ComponentLink2Description: Datasheet; ComponentLink2URL: http://www.vishay.com/docs/25137/eyn.pdf
footprint CAPPRS22.5-40X40-4 (Capacitor, Electrolytic, Radial, Snap-In Pins; Body 40 x 40 mm (Dia.xH typ); Pin Spacing 22.5 mm (typ))
simulation model CAP (Capacitor)
pins: 1, 2, 3 MH, 4 MH

## EYN07DB456L02
designator C?
Aluminum Electrolytic Capacitor, Power Capacitor Style EYN, Snap-in 6mm Solder Pins: 5600uF, 100V; Note: Pins 3 and 4 are Mounting Fixtures Only; PCB_Layout: Complies with Manufacturer's Recommendation.; DrillSize: Nominal, Complies with Manufacturer's Recommendation.; Published: 19-Mar-2004; DatasheetDocument: 4-Feb-2002; PackageReference: CAPPRS22.5-40X40-4; Publisher: Altium Limited; ComponentLink1Description: Manufacturer Link; ComponentLink1URL: http://www.vishay.com/; ComponentLink2Description: Datasheet; ComponentLink2URL: http://www.vishay.com/docs/25137/eyn.pdf
footprint CAPPRS22.5-40X40-4 (Capacitor, Electrolytic, Radial, Snap-In Pins; Body 40 x 40 mm (Dia.xH typ); Pin Spacing 22.5 mm (typ))
simulation model CAP (Capacitor)
pins: 1, 2, 3 MH, 4 MH

## EYN07DB512J02
designator C?
Aluminum Electrolytic Capacitor, Power Capacitor Style EYN, Snap-in 6mm Solder Pins: 12000uF, 63V; Note: Pins 3 and 4 are Mounting Fixtures Only; PCB_Layout: Complies with Manufacturer's Recommendation.; DrillSize: Nominal, Complies with Manufacturer's Recommendation.; Published: 19-Mar-2004; DatasheetDocument: 4-Feb-2002; PackageReference: CAPPRS22.5-40X40-4; Publisher: Altium Limited; ComponentLink1Description: Manufacturer Link; ComponentLink1URL: http://www.vishay.com/; ComponentLink2Description: Datasheet; ComponentLink2URL: http://www.vishay.com/docs/25137/eyn.pdf
footprint CAPPRS22.5-40X40-4 (Capacitor, Electrolytic, Radial, Snap-In Pins; Body 40 x 40 mm (Dia.xH typ); Pin Spacing 22.5 mm (typ))
simulation model CAP (Capacitor)
pins: 1, 2, 3 MH, 4 MH

## EYN07DB518H02
designator C?
Aluminum Electrolytic Capacitor, Power Capacitor Style EYN, Snap-in 6mm Solder Pins: 18000uF, 50V; Note: Pins 3 and 4 are Mounting Fixtures Only; PCB_Layout: Complies with Manufacturer's Recommendation.; DrillSize: Nominal, Complies with Manufacturer's Recommendation.; Published: 19-Mar-2004; DatasheetDocument: 4-Feb-2002; PackageReference: CAPPRS22.5-40X40-4; Publisher: Altium Limited; ComponentLink1Description: Manufacturer Link; ComponentLink1URL: http://www.vishay.com/; ComponentLink2Description: Datasheet; ComponentLink2URL: http://www.vishay.com/docs/25137/eyn.pdf
footprint CAPPRS22.5-40X40-4 (Capacitor, Electrolytic, Radial, Snap-In Pins; Body 40 x 40 mm (Dia.xH typ); Pin Spacing 22.5 mm (typ))
simulation model CAP (Capacitor)
pins: 1, 2, 3 MH, 4 MH

## EYN07DB522F02
designator C?
Aluminum Electrolytic Capacitor, Power Capacitor Style EYN, Snap-in 6mm Solder Pins: 22000uF, 35V; Note: Pins 3 and 4 are Mounting Fixtures Only; PCB_Layout: Complies with Manufacturer's Recommendation.; DrillSize: Nominal, Complies with Manufacturer's Recommendation.; Published: 19-Mar-2004; DatasheetDocument: 4-Feb-2002; PackageReference: CAPPRS22.5-40X40-4; Publisher: Altium Limited; ComponentLink1Description: Manufacturer Link; ComponentLink1URL: http://www.vishay.com/; ComponentLink2Description: Datasheet; ComponentLink2URL: http://www.vishay.com/docs/25137/eyn.pdf
footprint CAPPRS22.5-40X40-4 (Capacitor, Electrolytic, Radial, Snap-In Pins; Body 40 x 40 mm (Dia.xH typ); Pin Spacing 22.5 mm (typ))
simulation model CAP (Capacitor)
pins: 1, 2, 3 MH, 4 MH

## EYN07DB533E02
designator C?
Aluminum Electrolytic Capacitor, Power Capacitor Style EYN, Snap-in 6mm Solder Pins: 33000uF, 25V; Note: Pins 3 and 4 are Mounting Fixtures Only; PCB_Layout: Complies with Manufacturer's Recommendation.; DrillSize: Nominal, Complies with Manufacturer's Recommendation.; Published: 19-Mar-2004; DatasheetDocument: 4-Feb-2002; PackageReference: CAPPRS22.5-40X40-4; Publisher: Altium Limited; ComponentLink1Description: Manufacturer Link; ComponentLink1URL: http://www.vishay.com/; ComponentLink2Description: Datasheet; ComponentLink2URL: http://www.vishay.com/docs/25137/eyn.pdf
footprint CAPPRS22.5-40X40-4 (Capacitor, Electrolytic, Radial, Snap-In Pins; Body 40 x 40 mm (Dia.xH typ); Pin Spacing 22.5 mm (typ))
simulation model CAP (Capacitor)
pins: 1, 2, 3 MH, 4 MH

## EYN07DB556D02
designator C?
Aluminum Electrolytic Capacitor, Power Capacitor Style EYN, Snap-in 6mm Solder Pins: 56000uF, 16V; Note: Pins 3 and 4 are Mounting Fixtures Only; PCB_Layout: Complies with Manufacturer's Recommendation.; DrillSize: Nominal, Complies with Manufacturer's Recommendation.; Published: 19-Mar-2004; DatasheetDocument: 4-Feb-2002; PackageReference: CAPPRS22.5-40X40-4; Publisher: Altium Limited; ComponentLink1Description: Manufacturer Link; ComponentLink1URL: http://www.vishay.com/; ComponentLink2Description: Datasheet; ComponentLink2URL: http://www.vishay.com/docs/25137/eyn.pdf
footprint CAPPRS22.5-40X40-4 (Capacitor, Electrolytic, Radial, Snap-In Pins; Body 40 x 40 mm (Dia.xH typ); Pin Spacing 22.5 mm (typ))
simulation model CAP (Capacitor)
pins: 1, 2, 3 MH, 4 MH

## EYN07DB610B02
designator C?
Aluminum Electrolytic Capacitor, Power Capacitor Style EYN, Snap-in 6mm Solder Pins: 100000uF, 6.3V; Note: Pins 3 and 4 are Mounting Fixtures Only; PCB_Layout: Complies with Manufacturer's Recommendation.; DrillSize: Nominal, Complies with Manufacturer's Recommendation.; Published: 19-Mar-2004; DatasheetDocument: 4-Feb-2002; PackageReference: CAPPRS22.5-40X40-4; Publisher: Altium Limited; ComponentLink1Description: Manufacturer Link; ComponentLink1URL: http://www.vishay.com/; ComponentLink2Description: Datasheet; ComponentLink2URL: http://www.vishay.com/docs/25137/eyn.pdf
footprint CAPPRS22.5-40X40-4 (Capacitor, Electrolytic, Radial, Snap-In Pins; Body 40 x 40 mm (Dia.xH typ); Pin Spacing 22.5 mm (typ))
simulation model CAP (Capacitor)
pins: 1, 2, 3 MH, 4 MH

## EYN07DD347Y02
designator C?
Aluminum Electrolytic Capacitor, Power Capacitor Style EYN, Snap-in 6mm Solder Pins: 470uF, 500V; Note: Pins 3 and 4 are Mounting Fixtures Only; PCB_Layout: Complies with Manufacturer's Recommendation.; DrillSize: Nominal, Complies with Manufacturer's Recommendation.; Published: 19-Mar-2004; DatasheetDocument: 4-Feb-2002; PackageReference: CAPPRS22.5-40X50-4; Publisher: Altium Limited; ComponentLink1Description: Manufacturer Link; ComponentLink1URL: http://www.vishay.com/; ComponentLink2Description: Datasheet; ComponentLink2URL: http://www.vishay.com/docs/25137/eyn.pdf
footprint CAPPRS22.5-40X50-4 (Capacitor, Electrolytic, Radial, Snap-In Pins; Body 40 x 50 mm (Dia.xH typ); Pin Spacing 22.5 mm (typ))
simulation model CAP (Capacitor)
pins: 1, 2, 3 MH, 4 MH

## EYN07DD356P02
designator C?
Aluminum Electrolytic Capacitor, Power Capacitor Style EYN, Snap-in 6mm Solder Pins: 560uF, 450V; Note: Pins 3 and 4 are Mounting Fixtures Only; PCB_Layout: Complies with Manufacturer's Recommendation.; DrillSize: Nominal, Complies with Manufacturer's Recommendation.; Published: 19-Mar-2004; DatasheetDocument: 4-Feb-2002; PackageReference: CAPPRS22.5-40X50-4; Publisher: Altium Limited; ComponentLink1Description: Manufacturer Link; ComponentLink1URL: http://www.vishay.com/; ComponentLink2Description: Datasheet; ComponentLink2URL: http://www.vishay.com/docs/25137/eyn.pdf
footprint CAPPRS22.5-40X50-4 (Capacitor, Electrolytic, Radial, Snap-In Pins; Body 40 x 50 mm (Dia.xH typ); Pin Spacing 22.5 mm (typ))
simulation model CAP (Capacitor)
pins: 1, 2, 3 MH, 4 MH

## EYN07DD368X02
designator C?
Aluminum Electrolytic Capacitor, Power Capacitor Style EYN, Snap-in 6mm Solder Pins: 680uF, 400V; Note: Pins 3 and 4 are Mounting Fixtures Only; PCB_Layout: Complies with Manufacturer's Recommendation.; DrillSize: Nominal, Complies with Manufacturer's Recommendation.; Published: 19-Mar-2004; DatasheetDocument: 4-Feb-2002; PackageReference: CAPPRS22.5-40X50-4; Publisher: Altium Limited; ComponentLink1Description: Manufacturer Link; ComponentLink1URL: http://www.vishay.com/; ComponentLink2Description: Datasheet; ComponentLink2URL: http://www.vishay.com/docs/25137/eyn.pdf
footprint CAPPRS22.5-40X50-4 (Capacitor, Electrolytic, Radial, Snap-In Pins; Body 40 x 50 mm (Dia.xH typ); Pin Spacing 22.5 mm (typ))
simulation model CAP (Capacitor)
pins: 1, 2, 3 MH, 4 MH

## EYN07DD382O02
designator C?
Aluminum Electrolytic Capacitor, Power Capacitor Style EYN, Snap-in 6mm Solder Pins: 820uF, 350V; Note: Pins 3 and 4 are Mounting Fixtures Only; PCB_Layout: Complies with Manufacturer's Recommendation.; DrillSize: Nominal, Complies with Manufacturer's Recommendation.; Published: 19-Mar-2004; DatasheetDocument: 4-Feb-2002; PackageReference: CAPPRS22.5-40X50-4; Publisher: Altium Limited; ComponentLink1Description: Manufacturer Link; ComponentLink1URL: http://www.vishay.com/; ComponentLink2Description: Datasheet; ComponentLink2URL: http://www.vishay.com/docs/25137/eyn.pdf
footprint CAPPRS22.5-40X50-4 (Capacitor, Electrolytic, Radial, Snap-In Pins; Body 40 x 50 mm (Dia.xH typ); Pin Spacing 22.5 mm (typ))
simulation model CAP (Capacitor)
pins: 1, 2, 3 MH, 4 MH

## EYN07DD415N02
designator C?
Aluminum Electrolytic Capacitor, Power Capacitor Style EYN, Snap-in 6mm Solder Pins: 1500uF, 250V; Note: Pins 3 and 4 are Mounting Fixtures Only; PCB_Layout: Complies with Manufacturer's Recommendation.; DrillSize: Nominal, Complies with Manufacturer's Recommendation.; Published: 19-Mar-2004; DatasheetDocument: 4-Feb-2002; PackageReference: CAPPRS22.5-40X50-4; Publisher: Altium Limited; ComponentLink1Description: Manufacturer Link; ComponentLink1URL: http://www.vishay.com/; ComponentLink2Description: Datasheet; ComponentLink2URL: http://www.vishay.com/docs/25137/eyn.pdf
footprint CAPPRS22.5-40X50-4 (Capacitor, Electrolytic, Radial, Snap-In Pins; Body 40 x 50 mm (Dia.xH typ); Pin Spacing 22.5 mm (typ))
simulation model CAP (Capacitor)
pins: 1, 2, 3 MH, 4 MH

## EYN07DD468L02
designator C?
Aluminum Electrolytic Capacitor, Power Capacitor Style EYN, Snap-in 6mm Solder Pins: 6800uF, 100V; Note: Pins 3 and 4 are Mounting Fixtures Only; PCB_Layout: Complies with Manufacturer's Recommendation.; DrillSize: Nominal, Complies with Manufacturer's Recommendation.; Published: 19-Mar-2004; DatasheetDocument: 4-Feb-2002; PackageReference: CAPPRS22.5-40X50-4; Publisher: Altium Limited; ComponentLink1Description: Manufacturer Link; ComponentLink1URL: http://www.vishay.com/; ComponentLink2Description: Datasheet; ComponentLink2URL: http://www.vishay.com/docs/25137/eyn.pdf
footprint CAPPRS22.5-40X50-4 (Capacitor, Electrolytic, Radial, Snap-In Pins; Body 40 x 50 mm (Dia.xH typ); Pin Spacing 22.5 mm (typ))
simulation model CAP (Capacitor)
pins: 1, 2, 3 MH, 4 MH

## EYN07DD482L02
designator C?
Aluminum Electrolytic Capacitor, Power Capacitor Style EYN, Snap-in 6mm Solder Pins: 8200uF, 100V; Note: Pins 3 and 4 are Mounting Fixtures Only; PCB_Layout: Complies with Manufacturer's Recommendation.; DrillSize: Nominal, Complies with Manufacturer's Recommendation.; Published: 19-Mar-2004; DatasheetDocument: 4-Feb-2002; PackageReference: CAPPRS22.5-40X50-4; Publisher: Altium Limited; ComponentLink1Description: Manufacturer Link; ComponentLink1URL: http://www.vishay.com/; ComponentLink2Description: Datasheet; ComponentLink2URL: http://www.vishay.com/docs/25137/eyn.pdf
footprint CAPPRS22.5-40X50-4 (Capacitor, Electrolytic, Radial, Snap-In Pins; Body 40 x 50 mm (Dia.xH typ); Pin Spacing 22.5 mm (typ))
simulation model CAP (Capacitor)
pins: 1, 2, 3 MH, 4 MH

## EYN07DD522H02
designator C?
Aluminum Electrolytic Capacitor, Power Capacitor Style EYN, Snap-in 6mm Solder Pins: 22000uF, 50V; Note: Pins 3 and 4 are Mounting Fixtures Only; PCB_Layout: Complies with Manufacturer's Recommendation.; DrillSize: Nominal, Complies with Manufacturer's Recommendation.; Published: 19-Mar-2004; DatasheetDocument: 4-Feb-2002; PackageReference: CAPPRS22.5-40X50-4; Publisher: Altium Limited; ComponentLink1Description: Manufacturer Link; ComponentLink1URL: http://www.vishay.com/; ComponentLink2Description: Datasheet; ComponentLink2URL: http://www.vishay.com/docs/25137/eyn.pdf
footprint CAPPRS22.5-40X50-4 (Capacitor, Electrolytic, Radial, Snap-In Pins; Body 40 x 50 mm (Dia.xH typ); Pin Spacing 22.5 mm (typ))
simulation model CAP (Capacitor)
pins: 1, 2, 3 MH, 4 MH

## EYN07DD527F02
designator C?
Aluminum Electrolytic Capacitor, Power Capacitor Style EYN, Snap-in 6mm Solder Pins: 27000uF, 35V; Note: Pins 3 and 4 are Mounting Fixtures Only; PCB_Layout: Complies with Manufacturer's Recommendation.; DrillSize: Nominal, Complies with Manufacturer's Recommendation.; Published: 19-Mar-2004; DatasheetDocument: 4-Feb-2002; PackageReference: CAPPRS22.5-40X50-4; Publisher: Altium Limited; ComponentLink1Description: Manufacturer Link; ComponentLink1URL: http://www.vishay.com/; ComponentLink2Description: Datasheet; ComponentLink2URL: http://www.vishay.com/docs/25137/eyn.pdf
footprint CAPPRS22.5-40X50-4 (Capacitor, Electrolytic, Radial, Snap-In Pins; Body 40 x 50 mm (Dia.xH typ); Pin Spacing 22.5 mm (typ))
simulation model CAP (Capacitor)
pins: 1, 2, 3 MH, 4 MH

## EYN07DD533F02
designator C?
Aluminum Electrolytic Capacitor, Power Capacitor Style EYN, Snap-in 6mm Solder Pins: 33000uF, 35V; Note: Pins 3 and 4 are Mounting Fixtures Only; PCB_Layout: Complies with Manufacturer's Recommendation.; DrillSize: Nominal, Complies with Manufacturer's Recommendation.; Published: 19-Mar-2004; DatasheetDocument: 4-Feb-2002; PackageReference: CAPPRS22.5-40X50-4; Publisher: Altium Limited; ComponentLink1Description: Manufacturer Link; ComponentLink1URL: http://www.vishay.com/; ComponentLink2Description: Datasheet; ComponentLink2URL: http://www.vishay.com/docs/25137/eyn.pdf
footprint CAPPRS22.5-40X50-4 (Capacitor, Electrolytic, Radial, Snap-In Pins; Body 40 x 50 mm (Dia.xH typ); Pin Spacing 22.5 mm (typ))
simulation model CAP (Capacitor)
pins: 1, 2, 3 MH, 4 MH

## EYN07DD568D02
designator C?
Aluminum Electrolytic Capacitor, Power Capacitor Style EYN, Snap-in 6mm Solder Pins: 68000uF, 16V; Note: Pins 3 and 4 are Mounting Fixtures Only; PCB_Layout: Complies with Manufacturer's Recommendation.; DrillSize: Nominal, Complies with Manufacturer's Recommendation.; Published: 19-Mar-2004; DatasheetDocument: 4-Feb-2002; PackageReference: CAPPRS22.5-40X50-4; Publisher: Altium Limited; ComponentLink1Description: Manufacturer Link; ComponentLink1URL: http://www.vishay.com/; ComponentLink2Description: Datasheet; ComponentLink2URL: http://www.vishay.com/docs/25137/eyn.pdf
footprint CAPPRS22.5-40X50-4 (Capacitor, Electrolytic, Radial, Snap-In Pins; Body 40 x 50 mm (Dia.xH typ); Pin Spacing 22.5 mm (typ))
simulation model CAP (Capacitor)
pins: 1, 2, 3 MH, 4 MH

## EYN07DD610C02
designator C?
Aluminum Electrolytic Capacitor, Power Capacitor Style EYN, Snap-in 6mm Solder Pins: 100000uF, 10V; Note: Pins 3 and 4 are Mounting Fixtures Only; PCB_Layout: Complies with Manufacturer's Recommendation.; DrillSize: Nominal, Complies with Manufacturer's Recommendation.; Published: 19-Mar-2004; DatasheetDocument: 4-Feb-2002; PackageReference: CAPPRS22.5-40X50-4; Publisher: Altium Limited; ComponentLink1Description: Manufacturer Link; ComponentLink1URL: http://www.vishay.com/; ComponentLink2Description: Datasheet; ComponentLink2URL: http://www.vishay.com/docs/25137/eyn.pdf
footprint CAPPRS22.5-40X50-4 (Capacitor, Electrolytic, Radial, Snap-In Pins; Body 40 x 50 mm (Dia.xH typ); Pin Spacing 22.5 mm (typ))
simulation model CAP (Capacitor)
pins: 1, 2, 3 MH, 4 MH

## EYN07DF356Y02
designator C?
Aluminum Electrolytic Capacitor, Power Capacitor Style EYN, Snap-in 6mm Solder Pins: 560uF, 500V; Note: Pins 3 and 4 are Mounting Fixtures Only; PCB_Layout: Complies with Manufacturer's Recommendation.; DrillSize: Nominal, Complies with Manufacturer's Recommendation.; Published: 19-Mar-2004; DatasheetDocument: 4-Feb-2002; PackageReference: CAPPRS22.5-40X60-4; Publisher: Altium Limited; ComponentLink1Description: Manufacturer Link; ComponentLink1URL: http://www.vishay.com/; ComponentLink2Description: Datasheet; ComponentLink2URL: http://www.vishay.com/docs/25137/eyn.pdf
footprint CAPPRS22.5-40X60-4 (Capacitor, Electrolytic, Radial, Snap-In Pins; Body 40 x 60 mm (Dia.xH typ); Pin Spacing 22.5 mm (typ))
simulation model CAP (Capacitor)
pins: 1, 2, 3 MH, 4 MH

## EYN07DF368P02
designator C?
Aluminum Electrolytic Capacitor, Power Capacitor Style EYN, Snap-in 6mm Solder Pins: 680uF, 450V; Note: Pins 3 and 4 are Mounting Fixtures Only; PCB_Layout: Complies with Manufacturer's Recommendation.; DrillSize: Nominal, Complies with Manufacturer's Recommendation.; Published: 19-Mar-2004; DatasheetDocument: 4-Feb-2002; PackageReference: CAPPRS22.5-40X60-4; Publisher: Altium Limited; ComponentLink1Description: Manufacturer Link; ComponentLink1URL: http://www.vishay.com/; ComponentLink2Description: Datasheet; ComponentLink2URL: http://www.vishay.com/docs/25137/eyn.pdf
footprint CAPPRS22.5-40X60-4 (Capacitor, Electrolytic, Radial, Snap-In Pins; Body 40 x 60 mm (Dia.xH typ); Pin Spacing 22.5 mm (typ))
simulation model CAP (Capacitor)
pins: 1, 2, 3 MH, 4 MH

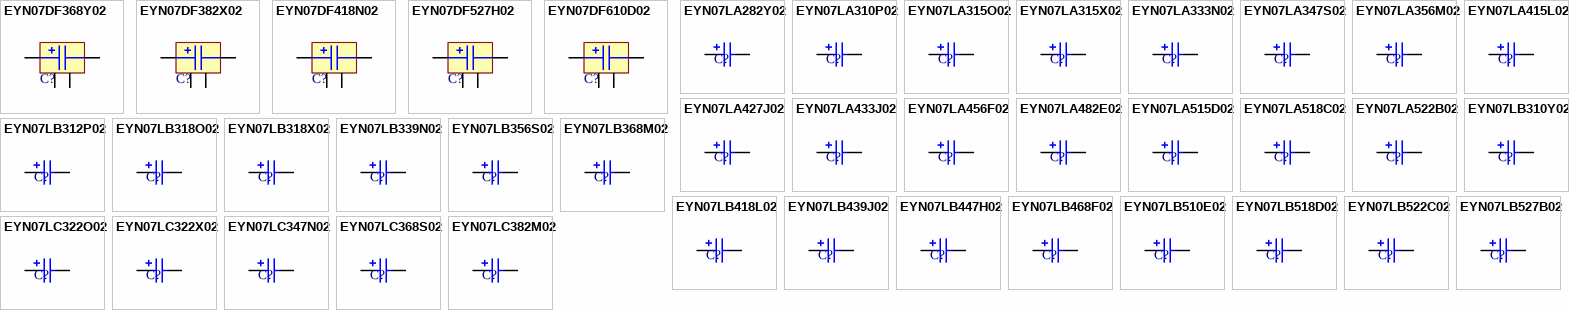
[diagram p21: symbols EYN07DF368Y02 to EYN07LC382M02]

## EYN07DF368Y02
designator C?
Aluminum Electrolytic Capacitor, Power Capacitor Style EYN, Snap-in 6mm Solder Pins: 680uF, 500V; Note: Pins 3 and 4 are Mounting Fixtures Only; PCB_Layout: Complies with Manufacturer's Recommendation.; DrillSize: Nominal, Complies with Manufacturer's Recommendation.; Published: 19-Mar-2004; DatasheetDocument: 4-Feb-2002; PackageReference: CAPPRS22.5-40X60-4; Publisher: Altium Limited; ComponentLink1Description: Manufacturer Link; ComponentLink1URL: http://www.vishay.com/; ComponentLink2Description: Datasheet; ComponentLink2URL: http://www.vishay.com/docs/25137/eyn.pdf
footprint CAPPRS22.5-40X60-4 (Capacitor, Electrolytic, Radial, Snap-In Pins; Body 40 x 60 mm (Dia.xH typ); Pin Spacing 22.5 mm (typ))
simulation model CAP (Capacitor)
pins: 1, 2, 3 MH, 4 MH

## EYN07DF382X02
designator C?
Aluminum Electrolytic Capacitor, Power Capacitor Style EYN, Snap-in 6mm Solder Pins: 820uF, 400V; Note: Pins 3 and 4 are Mounting Fixtures Only; PCB_Layout: Complies with Manufacturer's Recommendation.; DrillSize: Nominal, Complies with Manufacturer's Recommendation.; Published: 19-Mar-2004; DatasheetDocument: 4-Feb-2002; PackageReference: CAPPRS22.5-40X60-4; Publisher: Altium Limited; ComponentLink1Description: Manufacturer Link; ComponentLink1URL: http://www.vishay.com/; ComponentLink2Description: Datasheet; ComponentLink2URL: http://www.vishay.com/docs/25137/eyn.pdf
footprint CAPPRS22.5-40X60-4 (Capacitor, Electrolytic, Radial, Snap-In Pins; Body 40 x 60 mm (Dia.xH typ); Pin Spacing 22.5 mm (typ))
simulation model CAP (Capacitor)
pins: 1, 2, 3 MH, 4 MH